# Altium schematic symbol library MDBT42Q_SCHLIB_210702.SchLib: 1 symbol
Pins are listed as number, name and electrical type; pins without a type are passive.

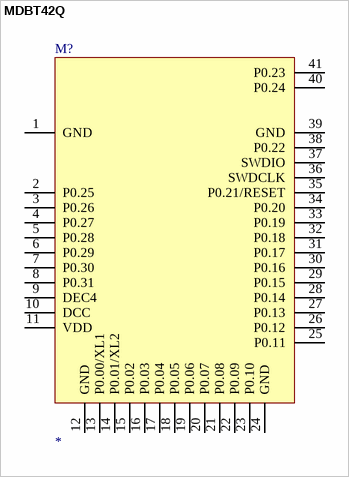
[diagram p0: symbol MDBT42Q]

## MDBT42Q
designator M?
MDBT42Q
footprint MDBT42Q
pins: 1 GND, 2 P0.25, 3 P0.26, 4 P0.27, 5 P0.28, 6 P0.29, 7 P0.30, 8 P0.31, 9 DEC4, 10 DCC, 11 VDD, 12 GND, 13 P0.00/XL1, 14 P0.01/XL2, 15 P0.02, 16 P0.03, 17 P0.04, 18 P0.05, 19 P0.06, 20 P0.07, 21 P0.08, 22 P0.09, 23 P0.10, 24 GND, 25 P0.11, 26 P0.12, 27 P0.13, 28 P0.14, 29 P0.15, 30 P0.16, 31 P0.17, 32 P0.18, 33 P0.19, 34 P0.20, 35 P0.21/RESET, 36 SWDCLK, 37 SWDIO, 38 P0.22, 39 GND, 40 P0.24, 41 P0.23